# EAGLE library part SHT21 (library sensors)
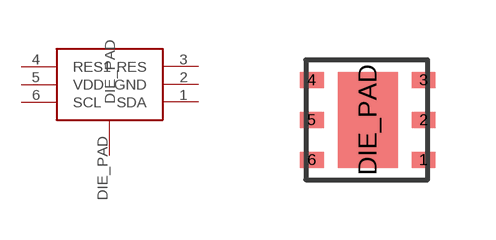
[diagram p0: symbol with the pads of SHT21_PADS; footprint SHT21_PADS]

Designator prefix -

## SHT21  [SHT21_PADS]
1  SDA
2  GND
3  RES
4  RES1
5  VDD
6  SCL
DIE_PAD  DIE_PAD

## Footprint SHT21_PADS (pad centres in mm)
smd 0.6 x 0.4: 1 2.9,0.5; 2 2.9,1.5; 3 2.9,2.5; 4 0.1,2.5; 5 0.1,1.5; 6 0.1,0.5
smd 1.5 x 2.4: DIE_PAD 1.5,1.5